# Altium footprint library XL_STD_5032_4P.PcbLib: 1 footprints
Each footprint in its own frame and in the unit in brackets; x right, y up, seen from the top. Pads: shape width x height; smd on the part's side, far side on the other; paste and mask are expansions set on the pad; w line width, h text height; cw(c..) or ccw(c..) is an arc to the next point about the centre after c.
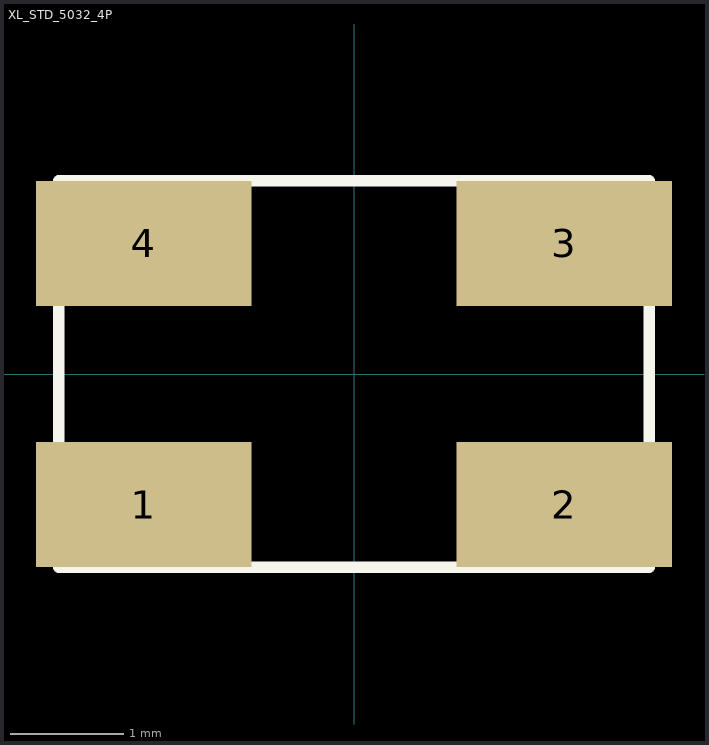
[diagram p0: the footprint, top view; thin cyan lines are the x and y axes]

## XL_STD_5032_4P [mm] "Universal 5x3.2mm crystal footprint"
height 1.5
pads (4):
  rect 1.9x1.1 smd: 1(-1.85,-1.15) 2(1.85,-1.15) 3(1.85,1.15) 4(-1.85,1.15)
Top Overlay:
  lines w0.102: -2.6,-1.7 -2.6,1.7 2.6,1.7 2.6,-1.7 -2.6,-1.7
3D body: height 0.9, standoff -0.05, extent -2.5,-1.6 2.5,1.6